# Altium footprint library PcbLib1.PcbLib: 32 footprints (part 2 of 2)
Each footprint in its own frame and in the unit in brackets; x right, y up, seen from the top. Pads: shape width x height; smd on the part's side, far side on the other; paste and mask are expansions set on the pad; w line width, h text height; cw(c..) or ccw(c..) is an arc to the next point about the centre after c.
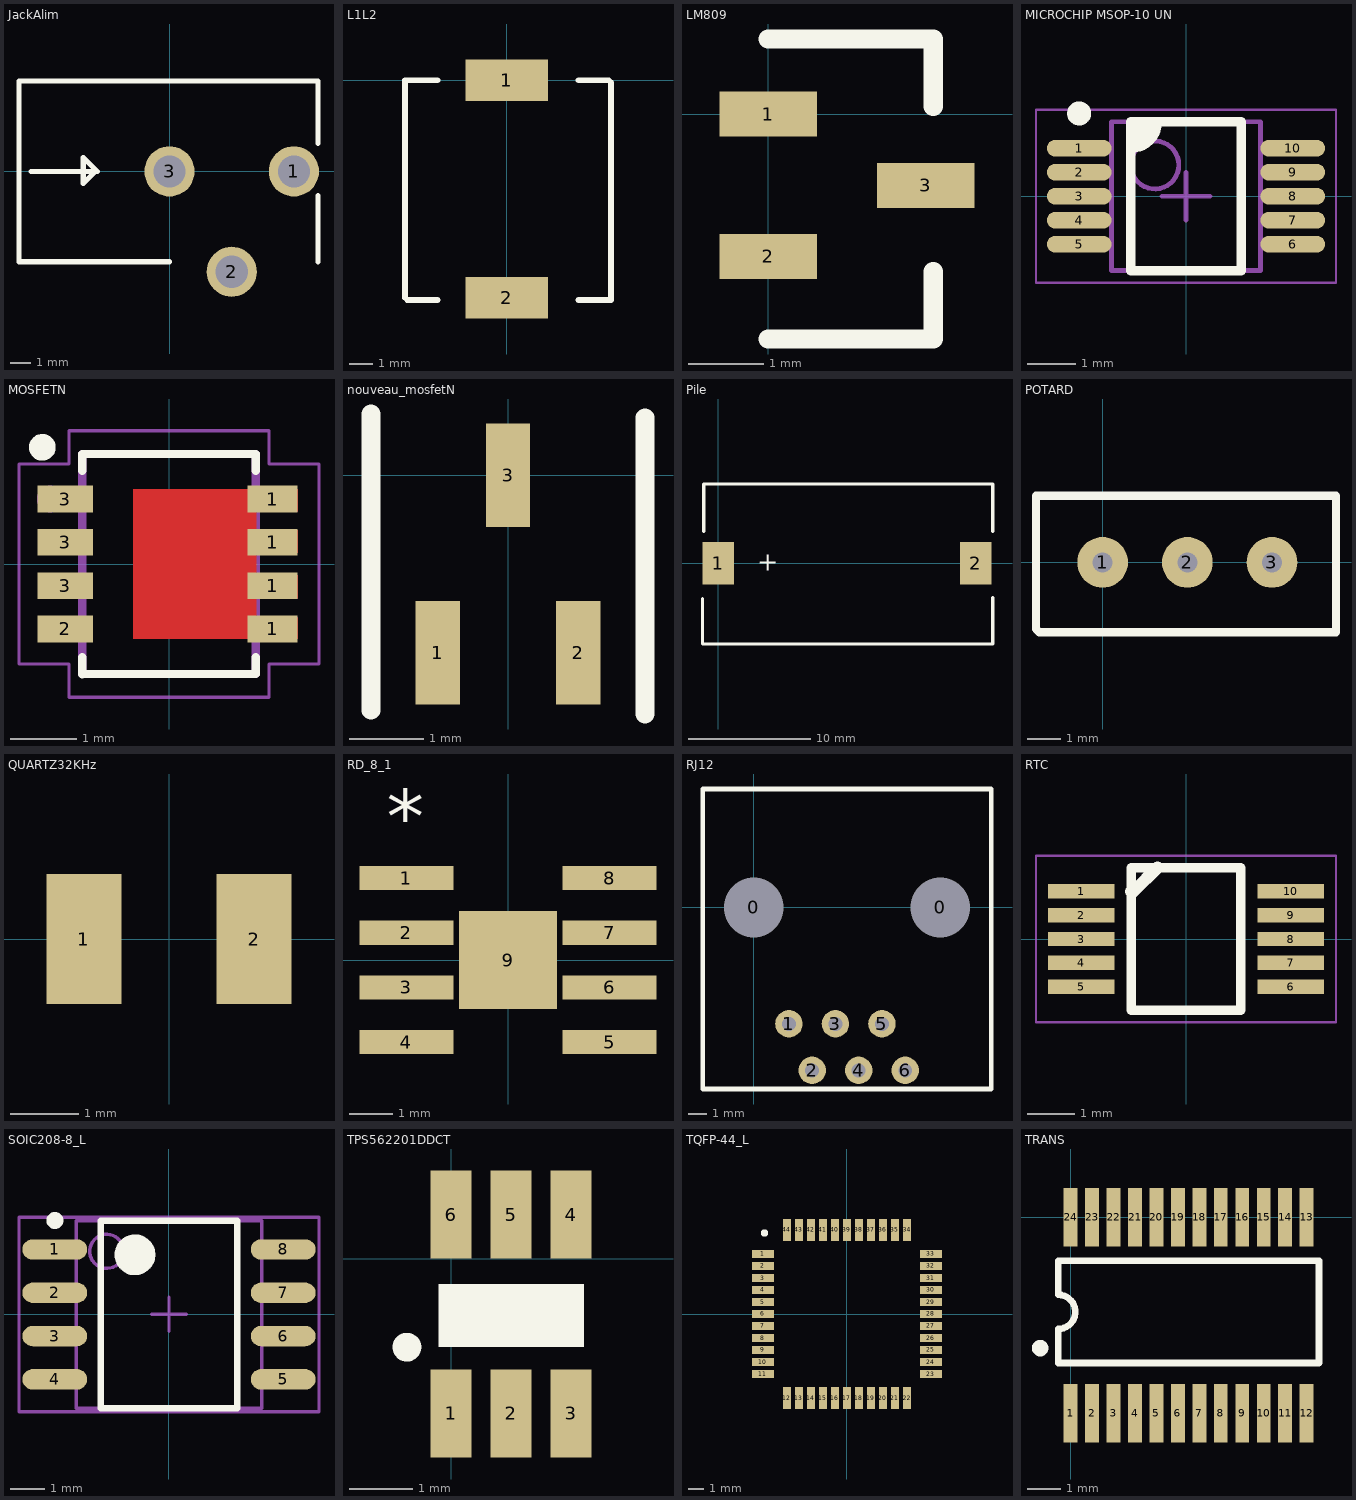
[diagram p1: the footprints below, top view; thin cyan lines are the x and y axes]

## JackAlim [mm]
height 11
pads (3):
  round 2.5 hole 1.6: 1(6.2,0) 2(3.1,-5) 3(0,0)
Top Overlay:
  lines w0.254: -6.9,0 -3.6,0 -4.3,0.7 -4.3,-0.6 -3.7,0 ; 0,-4.5 -7.5,-4.5 -7.5,4.5 7.4,4.5 7.4,1.4 ; 7.4,-4.5 7.4,-1.2

## L1L2 [mm]
height 3.8
pads (2):
  rect 3.56x1.78 smd: 1(0,0) 2(0,-9.4)
Top Overlay:
  lines w0.254: -4.4,-9.4 -4.4,0 -3,0 ; -4.3,-9.5 -3,-9.5 ; 3.1,-9.5 4.5,-9.5 4.5,-0.1 ; 3.1,0 4.4,0

## LM809 [mm]
height 1.12
pads (3):
  rect 1.3x0.6 smd: 1(0,0) 2(0,-1.9) 3(2.1,-0.95)
Top Overlay:
  lines w0.254: 0,-3 2.2,-3 2.2,-2.1 ; 0,1 2.2,1 2.2,0.1

## MICROCHIP MSOP-10 UN [mm] "MSOP, 10-Leads, Body 3.00x3.00mm, Pitch 0.50mm, IPC Medium Density"
height 1.1
pads (10):
  oval 1.35x0.35 smd: 1(-2.225,1) 2(-2.225,0.5) 3(-2.225,0) 4(-2.225,-0.5) 5(-2.225,-1) 6(2.225,-1) 7(2.225,-0.5) 8(2.225,0) 9(2.225,0.5) 10(2.225,1)
Top Overlay:
  circle w0.25: c-2.225,1.725 r0.125
  region: -1.15,1.55 -0.6,1.55 -0.6,1.3 -0.9,1 -1.15,1
  lines w0.2: -0.6,1.55 cw(c-1.15,1.55) -1.15,1 ; -1.15,1 -1.15,1 ; -1.15,-1.55 1.15,-1.55 1.15,1.55 -1.15,1.55 -1.15,-1.55
Mechanical 13:
  circle w0.1: c-0.65,0.65 r0.5
  lines w0.1: -1.55,-1.55 1.55,-1.55 1.55,1.55 -1.55,1.55 -1.55,-1.55
Mechanical 15:
  lines w0.05: -3.125,-1.8 3.125,-1.8 3.125,1.8 -3.125,1.8 -3.125,-1.8
  lines w0.1: -0.5,0 0.5,0 ; 0,-0.5 0,0.5
3D body: height 1.2, standoff 0, extent -2.46,-1.5 2.461,1.5

## MOSFETN [mm]
pads (8):
  rect 0.75x0.4 smd: 1(1.555,-0.975) 1(1.555,-0.325) 1(1.555,0.325) 1(1.555,0.975)
  rect 0.83x0.4 smd: 2(-1.555,-0.975) 3(-1.555,-0.325) 3(-1.555,0.325) 3(-1.555,0.975)
Top Layer:
  region: -0.54,1.125 1.93,1.125 1.93,0.795 1.31,0.795 1.31,0.505 1.93,0.505 1.93,0.165 1.31,0.165 1.31,-0.165 1.93,-0.165 1.93,-0.515 1.31,-0.515 1.31,-0.805 1.93,-0.805 1.93,-1.125 -0.54,-1.125
Top Overlay:
  circle w0.2: c-1.9,1.75 r0.1
  lines w0.127: -1.3,-1.4 -1.3,-1.656 1.3,-1.65 1.3,-1.4 ; -1.3,1.4 -1.3,1.65 1.3,1.65 1.3,1.4
Top Paste:
  region: 0.88,0.944 0.88,0.309 0.37,0.309 0.37,0.944
  region: 0.88,-0.309 0.88,-0.944 0.37,-0.944 0.37,-0.309
  region: -0.49,0.944 0.02,0.944 0.02,0.309 -0.49,0.309
  region: -0.49,-0.309 0.02,-0.309 0.02,-0.944 -0.49,-0.944
Top Solder:
  region: 1.98,1.225 1.98,0.675 1.36,0.675 1.36,0.625 1.98,0.625 1.98,0.025 1.36,0.025 1.36,-0.025 1.98,-0.025 1.98,-0.625 1.36,-0.625 1.36,-0.675 1.98,-0.675 1.98,-1.225 1.145,-1.225 1.145,-1.175 -0.59,-1.175 -0.59,1.175 1.145,1.175 1.145,1.225
Mechanical 1:
  circle w0.2: c-1.78,0.975 r0.1
  lines w0.05: -2.25,-1.5 -1.5,-1.5 -1.5,-2 1.5,-2 1.5,-1.5 2.25,-1.5 2.25,1.5 1.5,1.5 1.5,2 -1.5,2 -1.5,1.5 -2.25,1.5 -2.25,-1.5
  lines w0.127: -1.3,-1.65 -1.3,1.65 1.3,1.65 1.3,-1.65 -1.3,-1.65

## nouveau_mosfetN [mm]
pads (3):
  rect 0.6x1.4 smd: 1(-0.95,-2.4) 2(0.95,-2.4) 3(0,0)
Top Overlay:
  lines w0.254: -1.85,-3.175 -1.85,-2.175 -1.85,-0.175 -1.85,0.825 ; 1.85,-3.225 1.85,-2.225 1.85,-0.225 1.85,0.775

## Pile [mm]
height 4.8
pads (2):
  rect 2.6x3.5 smd: 1(0,0) 2(21.1,0)
Top Overlay:
  lines w0.254: -1.3,-2.9 -1.3,-6.6 22.5,-6.6 22.5,-2.8 ; -1.2,2.6 -1.2,6.5 2,6.5 22.5,6.5 22.5,2.6
  text "+" at 3.2,-0.6 h1.52

## POTARD [mil]
height 393.7
pads (3):
  round 60 hole 23.62: 1(0,0) 2(100,0) 3(200,0)
Top Overlay:
  lines w10: -78.74,-78.74 -74.8,-82.68 275.59,-82.68 275.59,78.74 -78.74,78.74 -78.74,39.37 -78.74,-78.74

## QUARTZ32KHz [mm]
height 1
pads (2):
  rect 1.1x1.9 smd: 1(-1.25,0) 2(1.25,0)
Mechanical 15:
  lines w0.254: -1.6,-0.75 -1.6,0.75 ; 1.6,-0.75 1.6,0.75

## RD_8_1 [mil]
pads (9):
  rect 86x22 smd: 1(-93,75) 2(-93,25) 3(-93,-25) 4(-93,-75) 5(93,-75) 6(93,-25) 7(93,25) 8(93,75)
  rect 90x90 smd: 9(0,0)
Top Overlay:
  text "*" at -110.87,106.57 h50
Mechanical 13:
  lines w1: -122,-85 -78.5,-85 -78.5,-65 -122,-65 -122,-85 ; -122,-35 -78.5,-35 -78.5,-15 -122,-15 -122,-35 ; -122,15 -78.5,15 -78.5,35 -122,35 -122,15 ; -122,65 -78.5,65 -78.5,85 -122,85 -122,65 ; 78.5,-85 122,-85 122,-65 78.5,-65 78.5,-85 ; 78.5,-35 122,-35 122,-15 78.5,-15 78.5,-35 ; 78.5,15 122,15 122,35 78.5,35 78.5,15 ; 78.5,65 122,65 122,85 78.5,85 78.5,65
  text "*" at -110.87,106.57 h50
3D body: height 10, standoff 0, extent 0,0 10,10

## RJ12 [mm]
pads (8):
  round 1.524 hole 3.25 unplated: 0(0,0) 0(10.16,0)
  round 1.5 hole 0.762: 1(1.91,-6.35) 2(3.18,-8.89) 3(4.45,-6.35) 4(5.72,-8.89) 5(6.99,-6.35) 6(8.26,-8.89)
Top Overlay:
  lines w0.254: -2.8,-9.91 12.96,-9.91 12.96,6.47 -2.8,6.47 -2.8,-9.91

## RTC [mm]
pads (10):
  rect 1.4x0.3 smd: 1(-2.2,1) 2(-2.2,0.5) 3(-2.2,0) 4(-2.2,-0.5) 5(-2.2,-1) 6(2.2,-1) 7(2.2,-0.5) 8(2.2,0) 9(2.2,0.5) 10(2.2,1)
Top Overlay:
  lines w0.2: -1.15,-1.5 1.15,-1.5 1.15,1.5 -1.15,1.5 -1.15,-1.5
  lines w0.254: -1.15,1 -1.1,1 -0.6,1.5
Top Solder:
  rectangle: 1.4,-1.3 3,1.3
  rectangle: -3,-1.3 -1.4,1.3
Mechanical 20:
  lines w0.05: -3.15,-1.75 3.15,-1.75 3.15,1.75 -3.15,1.75 -3.15,-1.75

## SOIC208-8_L [mm] "8-Pin Plastic Medium Body Small Outline Package 1.27 mm Pitch, IPC High Density"
height 2.04
pads (8):
  oval 1.9x0.6 smd: 1(-3.35,1.905) 2(-3.35,0.635) 3(-3.35,-0.635) 4(-3.35,-1.905) 5(3.35,-1.905) 6(3.35,-0.635) 7(3.35,0.635) 8(3.35,1.905)
Top Overlay:
  circle w0.25: c-3.35,2.755 r0.125
  circle w0.6: c-1,1.75 r0.3
  lines w0.2: -2,-2.75 -2,2.75 2,2.75 2,-2.75 -2,-2.75
Mechanical 13:
  circle w0.1: c-1.825,1.85 r0.5
  lines w0.1: -2.725,-2.75 -2.725,2.75 2.725,2.75 2.725,-2.75 -2.725,-2.75
Mechanical 15:
  lines w0.1: -0.5,0 0.5,0 ; 0,-0.5 0,0.5 ; -4.4,-2.85 -4.4,2.85 4.4,2.85 4.4,-2.85 -4.4,-2.85
3D body: height 2.04, standoff 0, extent -2.725,-2.75 2.725,2.75

## TPS562201DDCT [mm]
height 1.1
pads (6):
  rect 0.65x1.4 smd: 1(0,-2.45) 2(0.95,-2.45) 3(1.9,-2.45) 4(1.9,0.7) 5(0.95,0.7) 6(0,0.7)
Top Overlay:
  circle w0.254: c-0.7,-1.4 r0.1
  rectangle: -0.2,-1.4 2.1,-0.4
Top Solder:
  region: 2.4,-1.65 -0.5,-1.65 -0.5,-3.25 2.4,-3.25
  rectangle: -0.5,-0.1 2.4,1.5

## TQFP-44_L [mm] "44-Pin Thin Quad Flat Pack 0.8 mm Pitch, 1.0/0.1 mm Lead Form, IPC High Density"
height 1.2
pads (44):
  rect 1.45x0.55 smd: 1(-5.6,4) 2(-5.6,3.2) 3(-5.6,2.4) 4(-5.6,1.6) 5(-5.6,0.8) 6(-5.6,0) 7(-5.6,-0.8) 8(-5.6,-1.6) 9(-5.6,-2.4) 10(-5.6,-3.2) 11(-5.6,-4) 23(5.6,-4) 24(5.6,-3.2) 25(5.6,-2.4) 26(5.6,-1.6) 27(5.6,-0.8) 28(5.6,0) 29(5.6,0.8) 30(5.6,1.6) 31(5.6,2.4) 32(5.6,3.2) 33(5.6,4)
  rect 0.55x1.45 smd: 12(-4,-5.6) 13(-3.2,-5.6) 14(-2.4,-5.6) 15(-1.6,-5.6) 16(-0.8,-5.6) 17(0,-5.6) 18(0.8,-5.6) 19(1.6,-5.6) 20(2.4,-5.6) 21(3.2,-5.6) 22(4,-5.6) 34(4,5.6) 35(3.2,5.6) 36(2.4,5.6) 37(1.6,5.6) 38(0.8,5.6) 39(0,5.6) 40(-0.8,5.6) 41(-1.6,5.6) 42(-2.4,5.6) 43(-3.2,5.6) 44(-4,5.6)
Top Overlay:
  circle w0.25: c-5.5,5.4 r0.125
Top Solder:
  region: 6.5,4.4 4.7,4.4 4.7,-4.4 6.5,-4.4
  region: 4.4,-6.5 4.4,-4.7 -4.4,-4.7 -4.4,-6.5
  region: 4.4,4.7 4.4,6.5 -4.4,6.5 -4.4,4.7
  rectangle: -6.5,-4.4 -4.7,4.4

## TRANS [mm] "Shrink Small Outline; 24 Leads; Body Width 4.4 mm; Pitch 0.65 mm"
height 1.1
pads (24):
  rect 0.42x1.78 smd: 1(0,-5.94) 2(0.65,-5.94) 3(1.3,-5.94) 4(1.95,-5.94) 5(2.6,-5.94) 6(3.25,-5.94) 7(3.9,-5.94) 8(4.55,-5.94) 9(5.2,-5.94) 10(5.85,-5.94) 11(6.5,-5.94) 12(7.15,-5.94) 13(7.15,0) 14(6.5,0) 15(5.85,0) 16(5.2,0) 17(4.55,0) 18(3.9,0) 19(3.25,0) 20(2.6,0) 21(1.95,0) 22(1.3,0) 23(0.65,0) 24(0,0)
Top Overlay:
  circle w0.25: c-0.925,-3.965 r0.125
  lines w0.2: -0.375,-4.415 -0.375,-3.382 ccw(c-0.375,-2.865) -0.375,-2.348 -0.375,-1.315 7.525,-1.315 7.525,-4.415 -0.375,-4.415
Top Solder:
  rectangle: -0.3,-7 7.5,-4.8
  rectangle: -0.3,-1.06 7.5,1.14